# EAGLE library part SDA04SK (library switch-dil)
DIP SWITCH
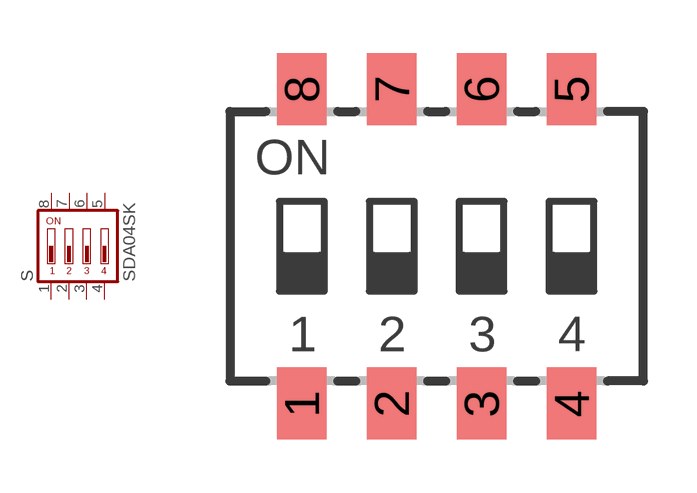
[diagram p59: symbol with the pads of SDA04SK; footprint SDA04SK]

Designator prefix S

## SDA04SK  [SDA04SK]
1  1  pas
2  2  pas
3  3  pas
4  4  pas
5  5  pas
6  6  pas
7  7  pas
8  8  pas

## Footprint SDA04SK (pad centres in mm)
C&K SDA Series
smd 1.397 x 2.032: 1 -3.81,-4.445; 2 -1.27,-4.445; 3 1.27,-4.445; 4 3.81,-4.445; 5 3.81,4.445; 6 1.27,4.445; 7 -1.27,4.445; 8 -3.81,4.445